# Altium footprint library Packages.PcbLib: 14 footprints
Each footprint in its own frame and in the unit in brackets; x right, y up, seen from the top. Pads: shape width x height; smd on the part's side, far side on the other; paste and mask are expansions set on the pad; w line width, h text height; cw(c..) or ccw(c..) is an arc to the next point about the centre after c.
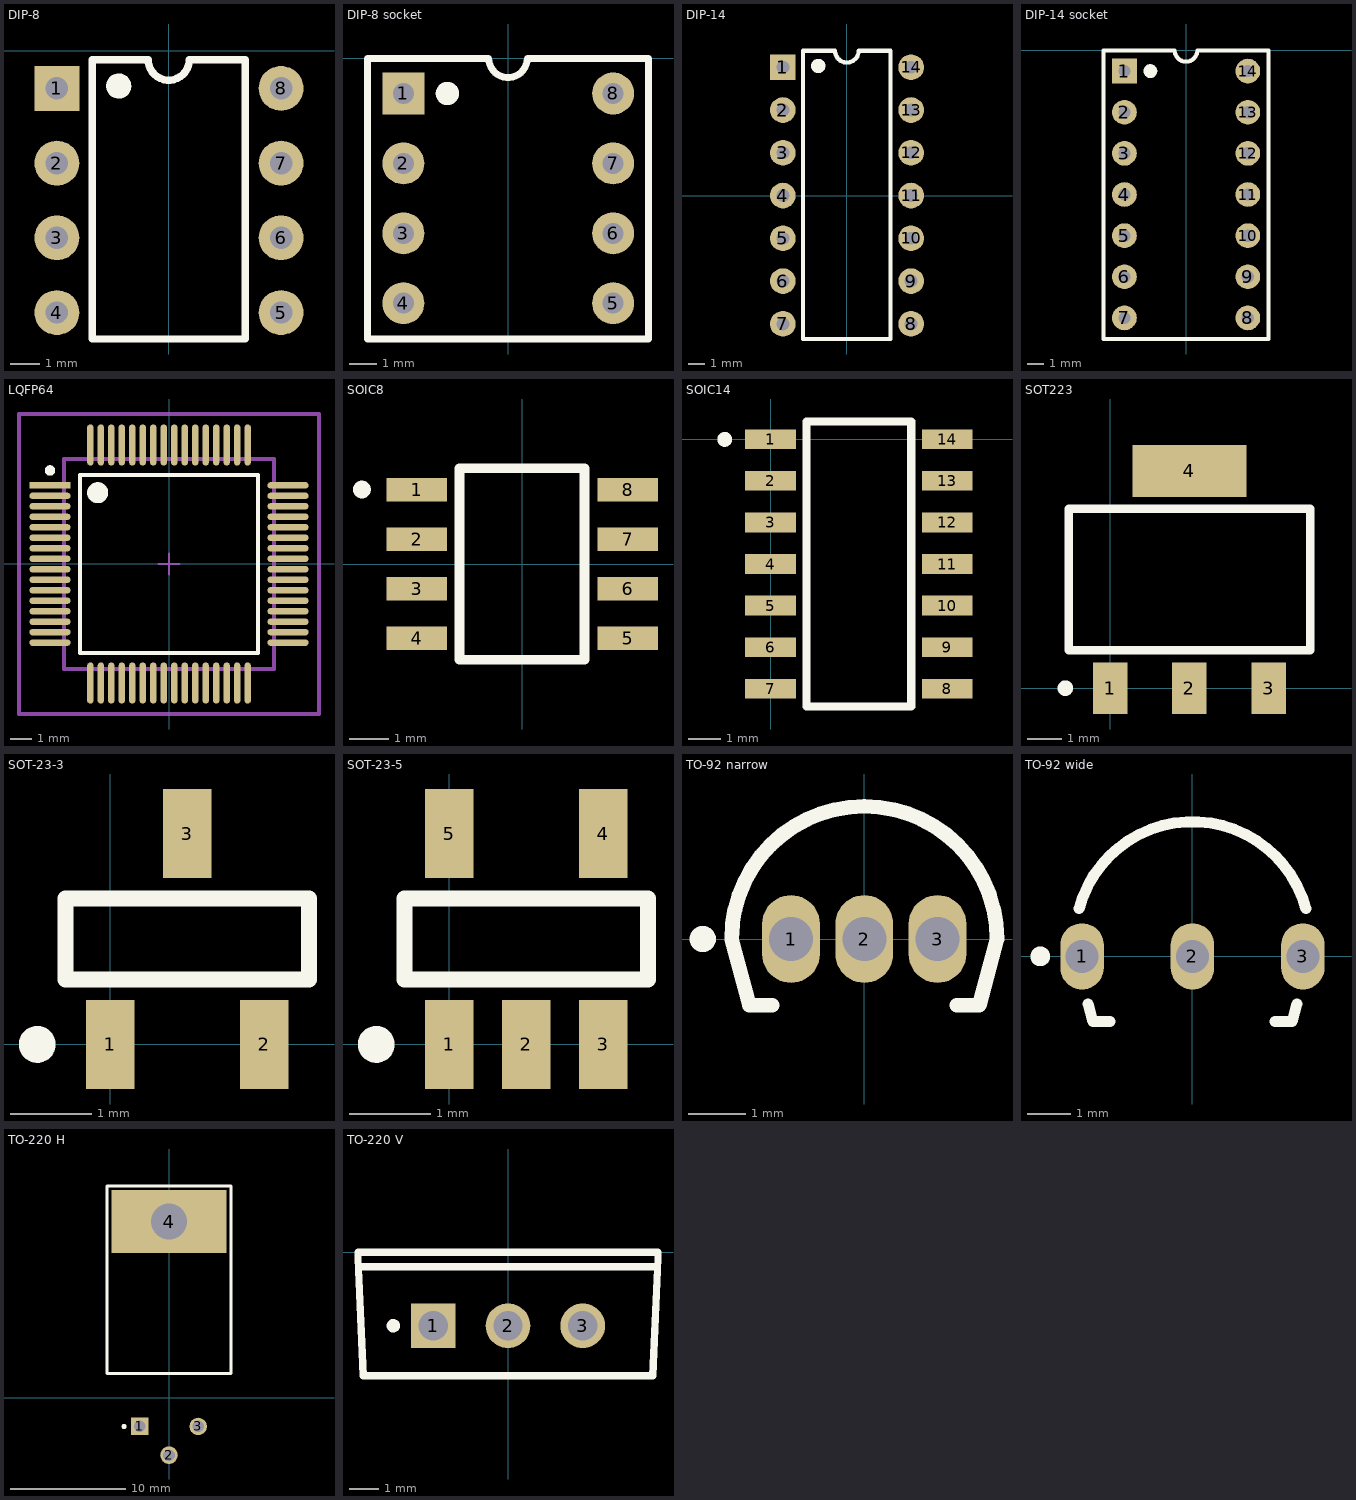
[diagram p0: the footprints below, top view; thin cyan lines are the x and y axes]

## DIP-8 [mil] "DIP-8 THT package"
pads (8):
  rect 60x60 hole 30: 1(-149.61,-50.39)
  round 60 hole 30: 2(-149.61,-150.39) 3(-149.61,-250.39) 4(-149.61,-350.39) 5(150.39,-350.39) 6(150.39,-250.39) 7(150.39,-150.39) 8(150.39,-50.39)
Top Overlay:
  circle w10: c-66.93,-47.24 r11.81
  rectangle: -74.8,-55.12 -59.06,-39.37
  lines w10: -102.36,-385.83 102.36,-385.83 102.36,-11.81 27.56,-11.81 cw(c0,-11.81) -27.56,-11.81 -102.36,-11.81 -102.36,-385.83
3D body "DIP-8 N.step": height 157.48, standoff -131.91, extent -179.85,-393.31 179.85,-7.48

## DIP-8 socket [mil] "Socket for DIP-8 ICs"
pads (8):
  rect 60x60 hole 30: 1(-149.61,-50.39)
  round 60 hole 30: 2(-149.61,-150.39) 3(-149.61,-250.39) 4(-149.61,-350.39) 5(150.39,-350.39) 6(150.39,-250.39) 7(150.39,-150.39) 8(150.39,-50.39)
Top Overlay:
  circle w10: c-86.61,-50.39 r11.81
  rectangle: -94.49,-58.27 -78.74,-42.52
  lines w10: -200.79,-401.57 -200.79,0 -27.56,0 ccw(c0,0) 27.56,0 200.79,0 200.79,-401.57 -200.79,-401.57
3D body "Socket_DIP8.stp": height 187.01, standoff -135.83, extent -196.46,-401.18 197.24,-2.68

## DIP-14 [mil] "DIP-14 THT package"
pads (14):
  rect 60x60 hole 30: 1(-150,300)
  round 60 hole 30: 2(-150,200) 3(-150,100) 4(-150,0) 5(-150,-100) 6(-150,-200) 7(-150,-300) 8(150,-300) 9(150,-200) 10(150,-100) 11(150,0) 12(150,100) 13(150,200) 14(150,300)
Top Overlay:
  circle w10: c-67.32,303.15 r11.81
  rectangle: -75.2,295.28 -59.45,311.02
  lines w10: -102.76,-335.43 -102.76,338.58 -27.95,338.58 ccw(c-0.39,338.58) 27.17,338.58 101.97,338.58 101.97,-335.43 -102.76,-335.43
3D body "DIP-14 N.step": height 149.61, standoff -139.79, extent -179.85,-344.49 179.85,344.49

## DIP-14 socket [mil] "Socket for DIP-14 ICs"
pads (14):
  rect 60x60 hole 30: 1(-149.61,-50.39)
  round 60 hole 30: 2(-149.61,-150.39) 3(-149.61,-250.39) 4(-149.61,-350.39) 5(-149.61,-450.39) 6(-149.61,-550.39) 7(-149.61,-650.39) 8(150.39,-650.39) 9(150.39,-550.39) 10(150.39,-450.39) 11(150.39,-350.39) 12(150.39,-250.39) 13(150.39,-150.39) 14(150.39,-50.39)
Top Overlay:
  circle w10: c-86.61,-50.39 r11.81
  rectangle: -94.49,-58.27 -78.74,-42.52
  lines w10: -200.79,-701.57 200.79,-701.57 200.79,0 27.56,0 cw(c0,0) -27.56,0 -200.79,0 -200.79,-701.57
3D body "DIP-14 W7.62mm IC with Socket.stp": height 310.24, standoff -123.36, extent -199.61,-710.73 201.97,9.94

## LQFP64 [mm] "LQFP64 SMD package"
pads (64):
  rect 1.955x0.312 smd paste+0 mask+0: 1(-5.675,3.75)
  rrect100% 1.955x0.312 smd paste+0 mask+0: 2(-5.675,3.25) 3(-5.675,2.75) 4(-5.675,2.25) 5(-5.675,1.75) 6(-5.675,1.25) 7(-5.675,0.75) 8(-5.675,0.25) 9(-5.675,-0.25) 10(-5.675,-0.75) 11(-5.675,-1.25) 12(-5.675,-1.75) 13(-5.675,-2.25) 14(-5.675,-2.75) 15(-5.675,-3.25) 16(-5.675,-3.75) 33(5.675,-3.75) 34(5.675,-3.25) 35(5.675,-2.75) 36(5.675,-2.25) 37(5.675,-1.75) 38(5.675,-1.25) 39(5.675,-0.75) 40(5.675,-0.25) 41(5.675,0.25) 42(5.675,0.75) 43(5.675,1.25) 44(5.675,1.75) 45(5.675,2.25) 46(5.675,2.75) 47(5.675,3.25) 48(5.675,3.75)
  rrect100% 0.312x1.955 smd paste+0 mask+0: 17(-3.75,-5.675) 18(-3.25,-5.675) 19(-2.75,-5.675) 20(-2.25,-5.675) 21(-1.75,-5.675) 22(-1.25,-5.675) 23(-0.75,-5.675) 24(-0.25,-5.675) 25(0.25,-5.675) 26(0.75,-5.675) 27(1.25,-5.675) 28(1.75,-5.675) 29(2.25,-5.675) 30(2.75,-5.675) 31(3.25,-5.675) 32(3.75,-5.675) 49(3.75,5.675) 50(3.25,5.675) 51(2.75,5.675) 52(2.25,5.675) 53(1.75,5.675) 54(1.25,5.675) 55(0.75,5.675) 56(0.25,5.675) 57(-0.25,5.675) 58(-0.75,5.675) 59(-1.25,5.675) 60(-1.75,5.675) 61(-2.25,5.675) 62(-2.75,5.675) 63(-3.25,5.675) 64(-3.75,5.675)
Top Overlay:
  circle w0.5: c-3.4,3.4 r0.25
  circle w0.25: c-5.675,4.46 r0.125
  lines w0.2: -4.25,-4.25 -4.25,4.25 4.25,4.25 4.25,-4.25 -4.25,-4.25
Top Assembly:
  lines w0.2: -7.153,-7.153 -7.153,7.153 7.153,7.153 7.153,-7.153 -7.153,-7.153
  text ".Designator" at 0,0 h1
Top 3D Body:
  lines w0.2: -5,-5 -5,5 5,5 5,-5 -5,-5
Top Courtyard:
  lines w0.2: -7.153,-7.153 -7.153,7.153 7.153,7.153 7.153,-7.153 -7.153,-7.153
Top Component Center:
  lines w0.1: -0.5,0 0.5,0 ; 0,-0.5 0,0.5
3D body "MS-026ACD.stp": height 1.2, standoff 0, extent -6.1,-6.1 6.1,6.1

## SOIC8 [mm] "SOIC8 SMD package"
pads (8):
  rect 1.55x0.6 smd: 1(-2.7,1.905) 2(-2.7,0.635) 3(-2.7,-0.635) 4(-2.7,-1.905) 5(2.7,-1.905) 6(2.7,-0.635) 7(2.7,0.635) 8(2.7,1.905)
Top Overlay:
  circle w0.254: c-4.1,1.905 r0.1
  lines w0.254: -1.6,-2.45 1.6,-2.45 1.6,2.45 -1.6,2.45 -1.6,-2.45
3D body "MS-012AA.stp": height 1.75, standoff 0, extent -3.1,-2.5 3.1,2.5

## SOIC14 [mm] "SOIC14 SMD package"
pads (14):
  rect 1.55x0.6 smd: 1(0,0) 2(0,-1.27) 3(0,-2.54) 4(0,-3.81) 5(0,-5.08) 6(0,-6.35) 7(0,-7.62) 8(5.4,-7.62) 9(5.4,-6.35) 10(5.4,-5.08) 11(5.4,-3.81) 12(5.4,-2.54) 13(5.4,-1.27) 14(5.4,0)
Top Overlay:
  circle w0.254: c-1.4,0 r0.1
  lines w0.254: 1.1,-8.165 4.3,-8.165 4.3,-4.355 4.3,0.545 1.1,0.545 1.1,-4.355 1.1,-8.165
3D body "MS-012AB.stp": height 1.75, standoff 0, extent -0.4,-8.185 5.8,0.565

## SOT223 [mm] "SOT223 SMD package"
pads (4):
  rect 1x1.5 smd: 1(0,0) 2(2.3,0) 3(4.6,0)
  rect 3.3x1.5 smd: 4(2.3,6.3)
Top Overlay:
  circle w0.254: c-1.3,0 r0.1
  lines w0.254: -1.2,1.1 -1.2,5.2 5.8,5.2 5.8,1.1 4.05,1.1 0.55,1.1 -1.2,1.1
3D body "TO-261AA.stp": height 1.8, standoff 0, extent -1.05,-0.55 5.65,6.75

## SOT-23-3 [mm] "SOT-23 SMD package 3 pin"
pads (3):
  rect 0.6x1.1 smd: 1(0,0) 2(1.9,0) 3(0.95,2.6)
Top Overlay:
  circle w0.254: c-0.9,0 r0.1
  lines w0.2: -0.55,0.8 2.45,0.8 2.45,1.8 -0.55,1.8 -0.55,0.8
3D body "TO-236AB.stp": height 1.1, standoff 0, extent -0.55,0 2.45,2.6

## SOT-23-5 [mm] "SOT-23 SMD package 5 pin"
pads (5):
  rect 0.6x1.1 smd: 1(0,0) 2(0.95,0) 3(1.9,0) 4(1.9,2.6) 5(0,2.6)
Top Overlay:
  circle w0.254: c-0.9,0 r0.1
  lines w0.2: -0.55,0.8 -0.55,1.8 2.45,1.8 2.45,0.8 -0.55,0.8
3D body "MO-178AA.stp": height 1.45, standoff 0, extent -0.575,-0.3 2.475,2.7

## TO-92 narrow [mil] "TO-92 THT package narrow legs"
pads (3):
  oval 39.37x60 hole 30: 1(-50,0) 2(0,0) 3(50,0)
Top Overlay:
  circle w10: c-110.24,0 r3.94
  lines w10: -62.99,-45.28 -78.42,-45.28 -90.55,0 cw(c0,0) 90.55,0 78.42,-45.28 62.99,-45.28
3D body "TO92.STEP": height 288.58, standoff -421.26, extent -102.02,-62.99 102.02,102.36

## TO-92 wide [mil] "TO-92 THT package wide legs"
pads (3):
  oval 39.37x60 hole 30: 1(-100,0) 2(0,0) 3(100,0)
Top Overlay:
  circle w10: c-137.8,0 r3.94
  lines w10: -102.68,43.26 cw(c0,15.75) 102.68,43.26 ; -94.49,-43.31 -90.24,-59.06 -74.8,-59.06 ; 74.8,-59.06 90.23,-59.06 94.49,-43.31
3D body "SOT54A.stp": height 322.83, standoff -381.89, extent -109.45,-61.02 109.45,104.27

## TO-220 H [mm] "TO-220 THT package horizontal orientation"
pads (4):
  rect 1.524x1.524 hole 1: 1(-2.54,-2.5)
  round 1.524 hole 1: 2(0,-5) 3(2.54,-2.5)
  rect 10x5.5 hole 3.1: 4(0,15.3)
Top Overlay:
  circle w0.254: c-3.9,-2.5 r0.1
  lines w0.254: -5.4,2.1 -5.4,18.4 5.4,18.4 5.4,2.1 -5.4,2.1
3D body "TO-220AB-HB-FairA.stp": height 4.8, standoff -5.3, extent -5.3,-5.31 5.35,18.31

## TO-220 V [mm] "TO-220 THT package vertical orientation"
pads (3):
  rect 1.524x1.524 hole 1: 1(-2.54,-2.5)
  round 1.524 hole 1: 2(0,-2.5) 3(2.54,-2.5)
Top Overlay:
  circle w0.254: c-3.9,-2.5 r0.1
  lines w0.254: -5,-0.5 5,-0.5 ; -5.1,-0.2 -4.914,-4.2 4.914,-4.2 5.1,-0.2 5.1,0 -5.1,0 -5.1,-0.2
3D body "TO-220AB-FairA.stp": height 20.2, standoff -8.5, extent -5.325,-4.2 5.325,0.6